# Altium footprint library 2279732.PcbLib: 1 footprints
Each footprint in its own frame and in the unit in brackets; x right, y up, seen from the top. Pads: shape width x height; smd on the part's side, far side on the other; paste and mask are expansions set on the pad; w line width, h text height; cw(c..) or ccw(c..) is an arc to the next point about the centre after c.

## 2279732 [mm]
3D body "pxc_2279732_01_BC-17-8-OTU-MKDSO-KMGY_3D v1.step": height 12.55, standoff -5.25, extent -1.85,-52.3 87.85,1.1